# Altium footprint library BCR421UFD7.PcbLib: 1 footprints
Each footprint in its own frame and in the unit in brackets; x right, y up, seen from the top. Pads: shape width x height; smd on the part's side, far side on the other; paste and mask are expansions set on the pad; w line width, h text height; cw(c..) or ccw(c..) is an arc to the next point about the centre after c.
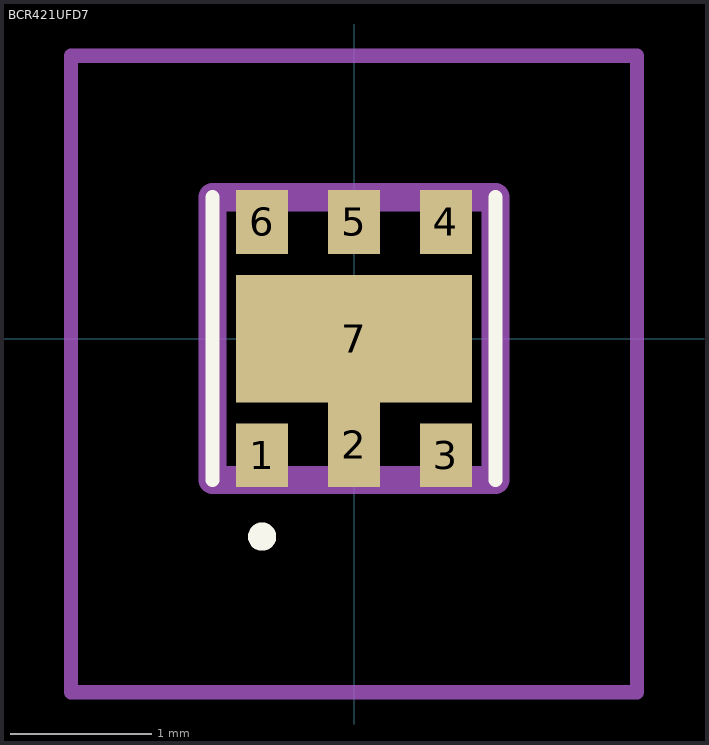
[diagram p0: the footprint, top view; thin cyan lines are the x and y axes]

## BCR421UFD7 [mm]
pads (7):
  rect 0.37x0.45 smd: 1(-0.65,-0.825) 3(0.65,-0.825) 4(0.65,0.825) 5(0,0.825) 6(-0.65,0.825)
  rect 0.37x0.6 smd: 2(0,-0.75)
  rect 1.67x0.9 smd: 7(0,0)
Top Overlay:
  lines w0.1: -1,-1 -1,1 ; 1,-1 1,1 ; -0.7,-1.4 -0.7,-1.4 ; -0.7,-1.4 ccw(c-0.65,-1.4) -0.6,-1.4 ; -0.7,-1.4 cw(c-0.65,-1.4) -0.6,-1.4 ; -0.6,-1.4 -0.6,-1.4
Mechanical 15:
  lines w0.2: -1,-1 1,-1 1,1 -1,1 -1,-1
Mechanical 20:
  lines w0.1: -2,-2.5 2,-2.5 2,2 -2,2 -2,-2.5